# Altium footprint library KF terminal block.PcbLib: 57 footprints (part 2 of 4)
Each footprint in its own frame and in the unit in brackets; x right, y up, seen from the top. Pads: shape width x height; smd on the part's side, far side on the other; paste and mask are expansions set on the pad; w line width, h text height; cw(c..) or ccw(c..) is an arc to the next point about the centre after c.
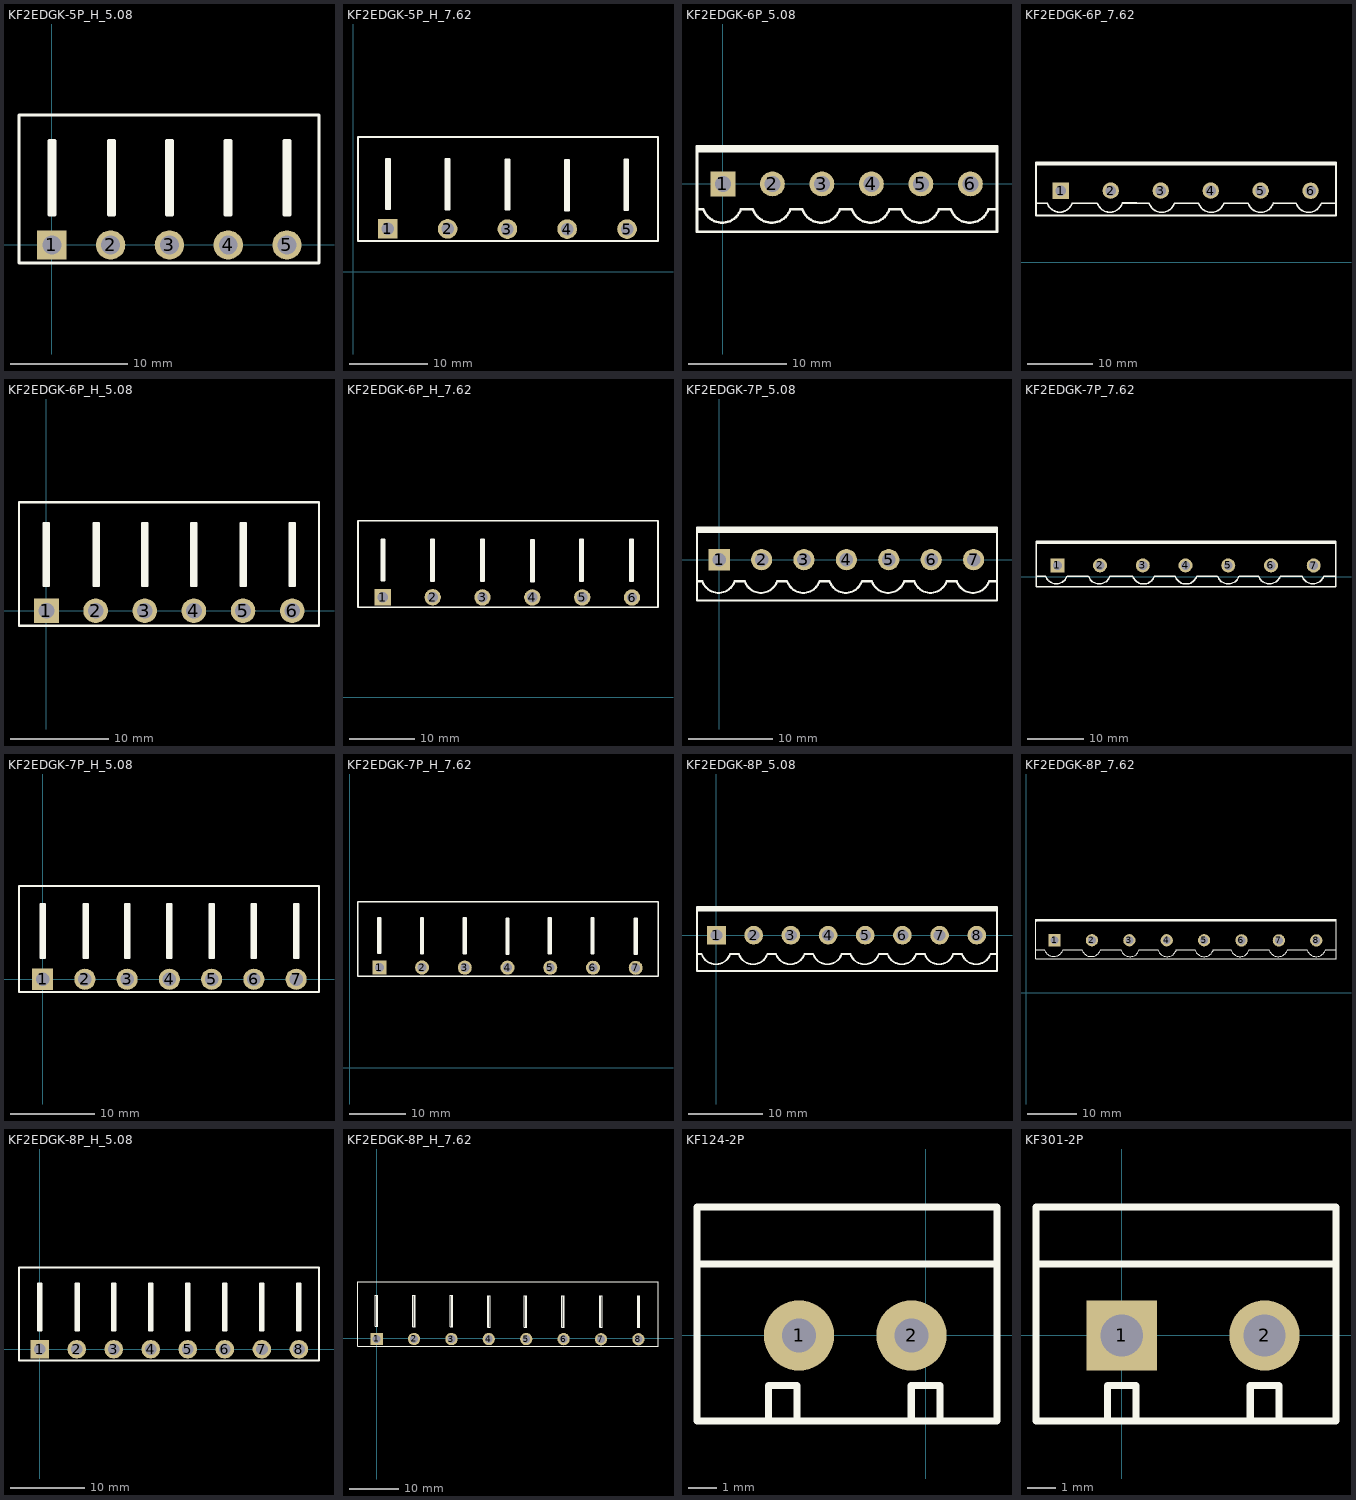
[diagram p1: the footprints below, top view; thin cyan lines are the x and y axes]

## KF2EDGK-5P_H_5.08 [mm] "ï¿½ï¿½Ç²ï¿½ï¿½Ê½ï¿½ï¿½ï¿½ï¿½"
pads (5):
  rect 2.5x2.5 hole 1.6: 1(0,0)
  round 2.5 hole 1.6: 2(5,0) 3(10,0) 4(15,0) 5(20,0)
Top Overlay:
  lines w0.254: 0,2.54 0,8.89 ; 5.08,2.54 5.08,8.89 ; 10,2.54 10,8.89 ; 15,2.54 15,8.89 ; 20,2.54 20,8.89 ; 0,8.89 0.254,8.89 0.254,2.54 -0.254,2.54 -0.254,8.89 0,8.89 ; 5.08,8.89 5.334,8.89 5.334,2.54 4.826,2.54 4.826,8.89 5.08,8.89 ; 10,8.89 9.746,8.89 9.746,2.54 10.254,2.54 10.254,8.89 10,8.89 ; 15,8.89 15.254,8.89 15.254,2.54 14.746,2.54 14.746,8.89 15,8.89 ; 20,8.89 19.746,8.89 19.746,2.54 20.254,2.54 20.254,8.89 20,8.89 ; -2.794,-1.524 22.725,-1.524 22.725,11.049 -2.794,11.049 -2.794,-1.524
3D body "KF2EDGK-1P_H.STEP": height 8.5, standoff -3, extent 17.46,-0.5 22.54,10.8
3D body "KF2EDGK-1P_H.STEP": height 8.5, standoff -3, extent 12.46,-0.5 17.54,10.8
3D body "KF2EDGK-1P_H.STEP": height 8.5, standoff -3, extent 7.46,-0.5 12.54,10.8
3D body "KF2EDGK-1P_H.STEP": height 8.5, standoff -3, extent 2.46,-0.5 7.54,10.8
3D body "KF2EDGK-1P_H.STEP": height 8.5, standoff -3, extent -2.54,-0.5 2.54,10.8

## KF2EDGK-5P_H_7.62 [mm] "ï¿½ï¿½Ç²ï¿½ï¿½Ê½ï¿½ï¿½ï¿½ï¿½"
pads (5):
  rect 2.5x2.5 hole 1.6: 1(4.427,5.461)
  round 2.5 hole 1.6: 2(12.052,5.461) 3(19.677,5.436) 4(27.302,5.436) 5(34.927,5.436)
Top Overlay:
  lines w0.254: 4.427,8.001 4.427,14.351 ; 12.057,8.001 12.057,14.351 ; 19.702,7.979 19.702,14.329 ; 27.302,7.904 27.302,14.254 ; 34.827,7.954 34.827,14.304 ; 4.427,14.351 4.173,14.351 4.173,8.001 4.681,8.001 4.681,14.351 4.427,14.351 ; 11.803,14.351 12.057,14.351 ; 11.803,14.351 12.311,14.351 ; 11.803,14.351 11.803,7.936 12.311,7.936 12.311,14.351 ; 12.057,14.351 12.311,14.351 ; 19.448,14.329 19.702,14.329 ; 19.448,14.329 19.956,14.329 ; 19.448,14.329 19.448,7.914 19.956,7.914 19.956,14.329 ; 19.702,14.329 19.956,14.329 ; 27.048,14.254 27.302,14.254 ; 27.048,14.254 27.556,14.254 ; 27.048,14.254 27.048,7.839 27.556,7.839 27.556,14.254 ; 27.302,14.254 27.556,14.254 ; 34.573,14.304 34.827,14.304 ; 34.573,14.304 35.081,14.304 ; 34.573,14.304 34.573,7.889 35.081,7.889 35.081,14.304 ; 34.827,14.304 35.081,14.304 ; 0.627,3.937 0.627,17.161 38.875,17.161 38.875,3.937 0.627,3.937
3D body "KF2EDGK-1P-H.STEP": height 8.04, standoff -2.91, extent 31.132,4.821 38.752,17.021
3D body "KF2EDGK-1P-H.STEP": height 8.04, standoff -2.91, extent 23.492,4.821 31.112,17.021
3D body "KF2EDGK-1P-H.STEP": height 8.04, standoff -2.91, extent 15.867,4.821 23.487,17.021
3D body "KF2EDGK-1P-H.STEP": height 8.04, standoff -2.91, extent 0.611,4.822 8.231,17.022
3D body "KF2EDGK-1P-H.STEP": height 8.04, standoff -2.91, extent 8.242,4.821 15.862,17.021

## KF2EDGK-6P_5.08 [mm] "Ö±ï¿½Ð²ï¿½ï¿½Ê½ï¿½ï¿½ï¿½ï¿½"
pads (6):
  rect 2.5x2.5 hole 1.6: 1(0,0)
  round 2.5 hole 1.6: 2(5,0) 3(10,0) 4(15,0) 5(20,0) 6(25,0)
Top Overlay:
  lines w0.254: -2.62,-2.54 -1.985,-2.54 ccw(c-0.08,-1.905) 1.825,-2.54 3.015,-2.54 ccw(c4.92,-1.905) 6.825,-2.54 8.015,-2.54 ccw(c9.92,-1.905) 11.825,-2.54 13.015,-2.54 ccw(c14.92,-1.905) 16.825,-2.54 18.015,-2.54 ccw(c19.92,-1.905) 21.825,-2.54 23.015,-2.54 ccw(c24.92,-1.905) 26.825,-2.54 27.667,-2.54 ; -2.62,3.302 27.686,3.302 ; -2.62,3.556 27.686,3.556 ; -2.62,-4.826 -2.62,3.81 27.686,3.81 27.686,-4.826 -2.62,-4.826
3D body "KF2EDGK-1P.STEP": height 11.25, standoff -2.95, extent 22.46,-4.75 27.54,3.75
3D body "KF2EDGK-1P.STEP": height 11.25, standoff -2.95, extent 17.46,-4.75 22.54,3.75
3D body "KF2EDGK-1P.STEP": height 11.25, standoff -2.95, extent 12.46,-4.75 17.54,3.75
3D body "KF2EDGK-1P.STEP": height 11.25, standoff -2.95, extent 7.46,-4.75 12.54,3.75
3D body "KF2EDGK-1P.STEP": height 11.25, standoff -2.95, extent 2.46,-4.75 7.54,3.75
3D body "KF2EDGK-1P.STEP": height 11.25, standoff -2.95, extent -2.54,-4.75 2.54,3.75

## KF2EDGK-6P_7.62 [mm] "Ö±ï¿½Ð²ï¿½ï¿½Ê½ï¿½ï¿½ï¿½ï¿½"
pads (6):
  rect 2.5x2.5 hole 1.6: 1(6.644,10.942)
  round 2.5 hole 1.6: 2(14.264,10.942) 3(21.894,10.942) 4(29.519,10.942) 5(37.144,10.942) 6(44.769,10.927)
Top Overlay:
  lines w0.254: 2.844,15.042 48.625,15.042 ; 2.885,9.028 4.558,9.028 ccw(c6.463,9.663) 8.368,9.028 ; 2.894,14.828 48.6,14.875 ; 8.393,9.028 12.194,9.017 ; 12.219,9.017 ccw(c14.124,9.652) 16.029,9.017 ; 16.044,9.042 18.244,9.042 ; 16.598,9.037 20.119,9.037 ; 20.144,8.992 ccw(c22.049,9.627) 23.954,8.992 ; 23.968,9.028 27.669,9.017 ; 27.694,8.992 ccw(c29.599,9.627) 31.504,8.992 ; 31.515,9.027 33.319,9.022 ; 31.522,9.037 35.224,9.026 ; 35.249,9.001 ccw(c37.154,9.636) 39.059,9.001 ; 39.069,9.036 40.874,9.031 ; 39.069,9.042 42.549,9.026 ; 42.574,9.001 ccw(c44.479,9.636) 46.384,9.001 ; 46.394,9.036 48.625,9.029 ; 2.844,7.142 2.844,15.235 48.65,15.235 48.65,7.142 2.844,7.142
3D body "KF2EDGK-1P.STEP": height 12.3, standoff -2.8, extent 41.019,7.242 48.639,15.192
3D body "KF2EDGK-1P.STEP": height 12.3, standoff -2.8, extent 33.394,7.242 41.014,15.192
3D body "KF2EDGK-1P.STEP": height 12.3, standoff -2.8, extent 10.505,7.221 18.125,15.171
3D body "KF2EDGK-1P.STEP": height 12.3, standoff -2.8, extent 2.885,7.234 10.505,15.184
3D body "KF2EDGK-1P.STEP": height 12.3, standoff -2.8, extent 18.119,7.221 25.739,15.171
3D body "KF2EDGK-1P.STEP": height 12.3, standoff -2.8, extent 25.769,7.242 33.389,15.192

## KF2EDGK-6P_H_5.08 [mm] "ï¿½ï¿½Ç²ï¿½ï¿½Ê½ï¿½ï¿½ï¿½ï¿½"
pads (6):
  rect 2.5x2.5 hole 1.6: 1(0,0)
  round 2.5 hole 1.6: 2(5,0) 3(10,0) 4(15,0) 5(20,0) 6(25,0)
Top Overlay:
  lines w0.254: 0,2.54 0,8.89 ; 5.08,2.54 5.08,8.89 ; 10,2.54 10,8.89 ; 15,2.54 15,8.89 ; 20,2.54 20,8.89 ; 25,2.54 25,8.89 ; 0,8.89 -0.254,8.89 -0.254,2.54 0.254,2.54 0.254,8.89 0,8.89 ; 5.08,8.89 4.826,8.89 4.826,2.54 5.334,2.54 5.334,8.89 5.08,8.89 ; 10,8.89 10.254,8.89 10.254,2.54 9.746,2.54 9.746,8.89 10,8.89 ; 15,8.89 14.746,8.89 14.746,2.54 15.254,2.54 15.254,8.89 15,8.89 ; 20,8.89 20.254,8.89 20.254,2.54 19.746,2.54 19.746,8.89 20,8.89 ; 25,8.89 24.746,8.89 24.746,2.54 25.254,2.54 25.254,8.89 25,8.89 ; -2.794,-1.524 -2.794,11.049 27.725,11.049 27.725,-1.524 -2.794,-1.524
3D body "KF2EDGK-1P_H.STEP": height 8.5, standoff -3, extent -2.54,-0.5 2.54,10.8
3D body "KF2EDGK-1P_H.STEP": height 8.5, standoff -3, extent 2.46,-0.5 7.54,10.8
3D body "KF2EDGK-1P_H.STEP": height 8.5, standoff -3, extent 7.46,-0.5 12.54,10.8
3D body "KF2EDGK-1P_H.STEP": height 8.5, standoff -3, extent 12.46,-0.5 17.54,10.8
3D body "KF2EDGK-1P_H.STEP": height 8.5, standoff -3, extent 17.46,-0.5 22.54,10.8
3D body "KF2EDGK-1P_H.STEP": height 8.5, standoff -3, extent 22.46,-0.5 27.54,10.8

## KF2EDGK-6P_H_7.62 [mm] "ï¿½ï¿½Ç²ï¿½ï¿½Ê½ï¿½ï¿½ï¿½ï¿½"
pads (6):
  rect 2.5x2.5 hole 1.6: 1(8.675,15.3)
  round 2.5 hole 1.6: 2(16.3,15.3) 3(23.925,15.275) 4(31.55,15.275) 5(39.175,15.275) 6(46.8,15.261)
Top Overlay:
  lines w0.254: 8.675,17.84 8.675,24.19 ; 16.305,17.84 16.305,24.19 ; 23.949,17.818 23.949,24.168 ; 31.549,17.743 31.549,24.093 ; 39.074,17.793 39.074,24.143 ; 46.724,17.793 46.724,24.143 ; 8.675,24.19 8.929,24.19 8.929,17.84 8.421,17.84 8.421,24.19 8.675,24.19 ; 16.051,24.19 16.051,17.775 16.559,17.775 16.559,24.19 ; 16.051,24.19 16.559,24.19 ; 16.051,24.19 16.305,24.19 ; 16.305,24.19 16.559,24.19 ; 23.695,24.168 23.695,17.753 24.203,17.753 24.203,24.168 ; 23.695,24.168 24.203,24.168 ; 23.695,24.168 23.949,24.168 ; 23.949,24.168 24.203,24.168 ; 31.295,24.093 31.295,17.678 31.803,17.678 31.803,24.093 ; 31.295,24.093 31.803,24.093 ; 31.295,24.093 31.549,24.093 ; 31.549,24.093 31.803,24.093 ; 38.82,24.143 38.82,17.728 39.328,17.728 39.328,24.143 ; 38.82,24.143 39.328,24.143 ; 38.82,24.143 39.074,24.143 ; 39.074,24.143 39.328,24.143 ; 46.47,24.143 46.47,17.728 46.978,17.728 46.978,24.143 ; 46.47,24.143 46.978,24.143 ; 46.47,24.143 46.724,24.143 ; 46.724,24.143 46.978,24.143 ; 4.875,13.776 50.775,13.776 50.775,27 4.875,27 4.875,13.776
3D body "KF2EDGK-1P-H.STEP": height 8.04, standoff -2.91, extent 43.05,14.7 50.67,26.9
3D body "KF2EDGK-1P-H.STEP": height 8.04, standoff -2.91, extent 35.432,14.696 43.052,26.896
3D body "KF2EDGK-1P-H.STEP": height 8.04, standoff -2.91, extent 27.792,14.696 35.412,26.896
3D body "KF2EDGK-1P-H.STEP": height 8.04, standoff -2.91, extent 20.167,14.696 27.787,26.896
3D body "KF2EDGK-1P-H.STEP": height 8.04, standoff -2.91, extent 4.911,14.697 12.531,26.897
3D body "KF2EDGK-1P-H.STEP": height 8.04, standoff -2.91, extent 12.542,14.696 20.162,26.896

## KF2EDGK-7P_5.08 [mm] "Ö±ï¿½Ð²ï¿½ï¿½Ê½ï¿½ï¿½ï¿½ï¿½"
pads (7):
  rect 2.5x2.5 hole 1.6: 1(0,0)
  round 2.5 hole 1.6: 2(5,0) 3(10,0) 4(15,0) 5(20,0) 6(25,0) 7(30,0)
Top Overlay:
  lines w0.254: -2.62,-2.54 -1.985,-2.54 ccw(c-0.08,-1.905) 1.825,-2.54 3.015,-2.54 ccw(c4.92,-1.905) 6.825,-2.54 8.015,-2.54 ccw(c9.92,-1.905) 11.825,-2.54 13.015,-2.54 ccw(c14.92,-1.905) 16.825,-2.54 18.015,-2.54 ccw(c19.92,-1.905) 21.825,-2.54 23.015,-2.54 ccw(c24.92,-1.905) 26.825,-2.54 28.015,-2.54 ccw(c29.92,-1.905) 31.825,-2.54 32.667,-2.54 ; -2.62,3.302 32.766,3.302 ; -2.62,3.556 32.766,3.556 ; -2.62,-4.826 -2.62,3.81 32.766,3.81 32.766,-4.826 -2.62,-4.826
3D body "KF2EDGK-1P.STEP": height 11.25, standoff -2.95, extent -2.54,-4.75 2.54,3.75
3D body "KF2EDGK-1P.STEP": height 11.25, standoff -2.95, extent 7.46,-4.75 12.54,3.75
3D body "KF2EDGK-1P.STEP": height 11.25, standoff -2.95, extent 2.46,-4.75 7.54,3.75
3D body "KF2EDGK-1P.STEP": height 11.25, standoff -2.95, extent 12.46,-4.75 17.54,3.75
3D body "KF2EDGK-1P.STEP": height 11.25, standoff -2.95, extent 17.46,-4.75 22.54,3.75
3D body "KF2EDGK-1P.STEP": height 11.25, standoff -2.95, extent 22.46,-4.75 27.54,3.75
3D body "KF2EDGK-1P.STEP": height 11.25, standoff -2.95, extent 27.46,-4.75 32.54,3.75

## KF2EDGK-7P_7.62 [mm] "Ö±ï¿½Ð²ï¿½ï¿½Ê½ï¿½ï¿½ï¿½ï¿½"
pads (7):
  rect 2.5x2.5 hole 1.6: 1(20.475,2.025)
  round 2.5 hole 1.6: 2(28.095,2.025) 3(35.725,2.025) 4(43.35,2.025) 5(50.975,2.025) 6(58.6,2.011) 7(66.225,2)
Top Overlay:
  lines w0.254: 16.675,6.125 70.2,6.125 ; 16.716,0.111 18.388,0.111 ccw(c20.293,0.746) 22.198,0.111 ; 16.725,5.911 70.05,5.967 ; 22.224,0.111 26.025,0.1 ; 26.05,0.1 ccw(c27.955,0.735) 29.86,0.1 ; 29.875,0.125 32.075,0.125 ; 30.428,0.12 33.95,0.12 ; 33.975,0.075 ccw(c35.88,0.71) 37.785,0.075 ; 37.799,0.111 41.5,0.1 ; 41.525,0.075 ccw(c43.43,0.71) 45.335,0.075 ; 45.345,0.11 47.15,0.105 ; 45.353,0.12 49.054,0.11 ; 49.079,0.084 ccw(c50.984,0.719) 52.889,0.084 ; 52.899,0.119 54.704,0.114 ; 52.9,0.125 56.379,0.109 ; 56.404,0.084 ccw(c58.309,0.719) 60.214,0.084 ; 60.224,0.119 62.029,0.114 ; 60.453,0.12 64.154,0.109 ; 64.179,0.084 ccw(c66.084,0.719) 67.989,0.084 ; 67.999,0.119 70.075,0.113 ; 70.175,6.318 16.675,6.318 16.675,-1.775 70.2,-1.775 ; 70.2,-1.75 70.2,6.3
3D body "KF2EDGK-1P.STEP": height 12.3, standoff -2.8, extent 39.6,-1.675 47.22,6.275
3D body "KF2EDGK-1P.STEP": height 12.3, standoff -2.8, extent 31.95,-1.696 39.57,6.254
3D body "KF2EDGK-1P.STEP": height 12.3, standoff -2.8, extent 16.716,-1.683 24.336,6.267
3D body "KF2EDGK-1P.STEP": height 12.3, standoff -2.8, extent 24.336,-1.696 31.956,6.254
3D body "KF2EDGK-1P.STEP": height 12.3, standoff -2.8, extent 47.225,-1.675 54.845,6.275
3D body "KF2EDGK-1P.STEP": height 12.3, standoff -2.8, extent 54.85,-1.675 62.47,6.275
3D body "KF2EDGK-1P.STEP": height 12.3, standoff -2.8, extent 62.5,-1.7 70.12,6.25

## KF2EDGK-7P_H_5.08 [mm] "ï¿½ï¿½Ç²ï¿½ï¿½Ê½ï¿½ï¿½ï¿½ï¿½"
pads (7):
  rect 2.5x2.5 hole 1.6: 1(0,0)
  round 2.5 hole 1.6: 2(5,0) 3(10,0) 4(15,0) 5(20,0) 6(25,0) 7(30,0)
Top Overlay:
  lines w0.254: 0,2.54 0,8.89 ; 5.08,2.54 5.08,8.89 ; 10,2.54 10,8.89 ; 15,2.54 15,8.89 ; 20,2.54 20,8.89 ; 25,2.54 25,8.89 ; 30,2.54 30,8.89 ; 0,8.89 0.254,8.89 0.254,2.54 -0.254,2.54 -0.254,8.89 0,8.89 ; 5.08,8.89 5.334,8.89 5.334,2.54 4.826,2.54 4.826,8.89 5.08,8.89 ; 10,8.89 9.746,8.89 9.746,2.54 10.254,2.54 10.254,8.89 10,8.89 ; 15,8.89 15.254,8.89 15.254,2.54 14.746,2.54 14.746,8.89 15,8.89 ; 20,8.89 19.746,8.89 19.746,2.54 20.254,2.54 20.254,8.89 20,8.89 ; 25,8.89 25.254,8.89 25.254,2.54 24.746,2.54 24.746,8.89 25,8.89 ; 30,8.89 29.746,8.89 29.746,2.54 30.254,2.54 30.254,8.89 30,8.89 ; -2.794,-1.524 32.7,-1.524 32.7,11.049 -2.794,11.049 -2.794,-1.524
3D body "KF2EDGK-1P_H.STEP": height 8.5, standoff -3, extent 27.46,-0.5 32.54,10.8
3D body "KF2EDGK-1P_H.STEP": height 8.5, standoff -3, extent 22.46,-0.5 27.54,10.8
3D body "KF2EDGK-1P_H.STEP": height 8.5, standoff -3, extent 17.46,-0.5 22.54,10.8
3D body "KF2EDGK-1P_H.STEP": height 8.5, standoff -3, extent 12.46,-0.5 17.54,10.8
3D body "KF2EDGK-1P_H.STEP": height 8.5, standoff -3, extent 7.46,-0.5 12.54,10.8
3D body "KF2EDGK-1P_H.STEP": height 8.5, standoff -3, extent 2.46,-0.5 7.54,10.8
3D body "KF2EDGK-1P_H.STEP": height 8.5, standoff -3, extent -2.54,-0.5 2.54,10.8

## KF2EDGK-7P_H_7.62 [mm] "ï¿½ï¿½Ç²ï¿½ï¿½Ê½ï¿½ï¿½ï¿½ï¿½"
pads (7):
  rect 2.5x2.5 hole 1.6: 1(5.275,17.875)
  round 2.5 hole 1.6: 2(12.9,17.875) 3(20.525,17.85) 4(28.15,17.85) 5(35.775,17.85) 6(43.4,17.836) 7(51.025,17.825)
Top Overlay:
  lines w0.254: 5.275,20.415 5.275,26.765 ; 12.905,20.415 12.905,26.765 ; 20.549,20.393 20.549,26.743 ; 28.149,20.318 28.149,26.668 ; 35.674,20.368 35.674,26.718 ; 43.324,20.368 43.324,26.718 ; 51.024,20.318 51.024,26.668 ; 5.275,26.765 5.021,26.765 5.021,20.415 5.529,20.415 5.529,26.765 5.275,26.765 ; 12.651,26.765 12.905,26.765 ; 12.651,26.765 13.159,26.765 ; 12.651,26.765 12.651,20.35 13.159,20.35 13.159,26.765 ; 12.905,26.765 13.159,26.765 ; 20.295,26.743 20.549,26.743 ; 20.295,26.743 20.803,26.743 ; 20.295,26.743 20.295,20.328 20.803,20.328 20.803,26.743 ; 20.549,26.743 20.803,26.743 ; 27.895,26.668 28.149,26.668 ; 27.895,26.668 28.403,26.668 ; 27.895,26.668 27.895,20.253 28.403,20.253 28.403,26.668 ; 28.149,26.668 28.403,26.668 ; 35.42,26.718 35.674,26.718 ; 35.42,26.718 35.928,26.718 ; 35.42,26.718 35.42,20.303 35.928,20.303 35.928,26.718 ; 35.674,26.718 35.928,26.718 ; 43.07,26.718 43.324,26.718 ; 43.07,26.718 43.578,26.718 ; 43.07,26.718 43.07,20.303 43.578,20.303 43.578,26.718 ; 43.324,26.718 43.578,26.718 ; 50.77,26.668 51.024,26.668 ; 50.77,26.668 51.278,26.668 ; 50.77,26.668 50.77,20.253 51.278,20.253 51.278,26.668 ; 51.024,26.668 51.278,26.668 ; 1.475,16.351 1.475,29.575 55,29.575 55,16.351 1.475,16.351
3D body "KF2EDGK-1P-H.STEP": height 8.04, standoff -2.91, extent 39.755,17.275 47.375,29.475
3D body "KF2EDGK-1P-H.STEP": height 8.04, standoff -2.91, extent 47.375,17.275 54.995,29.475
3D body "KF2EDGK-1P-H.STEP": height 8.04, standoff -2.91, extent 32.13,17.275 39.75,29.475
3D body "KF2EDGK-1P-H.STEP": height 8.04, standoff -2.91, extent 24.505,17.275 32.125,29.475
3D body "KF2EDGK-1P-H.STEP": height 8.04, standoff -2.91, extent 16.865,17.275 24.485,29.475
3D body "KF2EDGK-1P-H.STEP": height 8.04, standoff -2.91, extent 9.23,17.275 16.85,29.475
3D body "KF2EDGK-1P-H.STEP": height 8.04, standoff -2.91, extent 1.605,17.275 9.225,29.475

## KF2EDGK-8P_5.08 [mm] "Ö±ï¿½Ð²ï¿½ï¿½Ê½ï¿½ï¿½ï¿½ï¿½"
pads (8):
  rect 2.5x2.5 hole 1.6: 1(0,0)
  round 2.5 hole 1.6: 2(5,0) 3(10,0) 4(15,0) 5(20,0) 6(25,0) 7(30,0) 8(35,0)
Top Overlay:
  lines w0.254: -2.62,-2.54 -1.985,-2.54 ccw(c-0.08,-1.905) 1.825,-2.54 3.015,-2.54 ccw(c4.92,-1.905) 6.825,-2.54 8.015,-2.54 ccw(c9.92,-1.905) 11.825,-2.54 13.015,-2.54 ccw(c14.92,-1.905) 16.825,-2.54 18.015,-2.54 ccw(c19.92,-1.905) 21.825,-2.54 23.015,-2.54 ccw(c24.92,-1.905) 26.825,-2.54 28.015,-2.54 ccw(c29.92,-1.905) 31.825,-2.54 33.015,-2.54 ccw(c34.92,-1.905) 36.825,-2.54 37.667,-2.54 ; -2.62,3.302 37.592,3.302 ; -2.62,3.556 37.719,3.556 ; -2.62,-4.826 -2.62,3.81 37.719,3.81 37.719,-4.826 -2.62,-4.826
3D body "KF2EDGK-1P.STEP": height 11.25, standoff -2.95, extent -2.54,-4.75 2.54,3.75
3D body "KF2EDGK-1P.STEP": height 11.25, standoff -2.95, extent 2.46,-4.75 7.54,3.75
3D body "KF2EDGK-1P.STEP": height 11.25, standoff -2.95, extent 7.46,-4.75 12.54,3.75
3D body "KF2EDGK-1P.STEP": height 11.25, standoff -2.95, extent 12.46,-4.75 17.54,3.75
3D body "KF2EDGK-1P.STEP": height 11.25, standoff -2.95, extent 17.46,-4.75 22.54,3.75
3D body "KF2EDGK-1P.STEP": height 11.25, standoff -2.95, extent 22.46,-4.75 27.54,3.75
3D body "KF2EDGK-1P.STEP": height 11.25, standoff -2.95, extent 27.46,-4.75 32.54,3.75
3D body "KF2EDGK-1P.STEP": height 11.25, standoff -2.95, extent 32.46,-4.75 37.54,3.75

## KF2EDGK-8P_7.62 [mm] "Ö±ï¿½Ð²ï¿½ï¿½Ê½ï¿½ï¿½ï¿½ï¿½"
pads (8):
  rect 2.5x2.5 hole 1.6: 1(5.775,10.7)
  round 2.5 hole 1.6: 2(13.395,10.7) 3(21.025,10.7) 4(28.65,10.7) 5(36.275,10.7) 6(43.9,10.686) 7(51.525,10.675) 8(59.15,10.675)
Top Overlay:
  lines w0.254: 2.016,8.786 3.688,8.786 ccw(c5.593,9.421) 7.498,8.786 ; 2.025,14.586 63.15,14.65 ; 2.025,14.814 63.15,14.814 ; 7.524,8.786 11.325,8.775 ; 11.35,8.775 ccw(c13.255,9.41) 15.16,8.775 ; 15.175,8.8 17.375,8.8 ; 15.728,8.795 19.25,8.795 ; 19.275,8.75 ccw(c21.18,9.385) 23.085,8.75 ; 23.099,8.786 26.8,8.775 ; 26.825,8.75 ccw(c28.73,9.385) 30.635,8.75 ; 30.645,8.785 32.45,8.78 ; 30.653,8.795 34.354,8.785 ; 34.379,8.759 ccw(c36.284,9.394) 38.189,8.759 ; 38.199,8.794 40.004,8.789 ; 38.2,8.8 41.679,8.784 ; 41.704,8.759 ccw(c43.609,9.394) 45.514,8.759 ; 45.524,8.794 47.329,8.789 ; 45.753,8.795 49.454,8.784 ; 49.479,8.759 ccw(c51.384,9.394) 53.289,8.759 ; 53.299,8.794 55.104,8.789 ; 53.528,8.795 57.229,8.784 ; 57.254,8.759 ccw(c59.159,9.394) 61.064,8.759 ; 61.075,8.794 63.15,8.8 ; 1.99,6.9 63.175,6.9 63.175,15.018 1.99,15.018 1.99,6.9
3D body "KF2EDGK-1P.STEP": height 12.3, standoff -2.8, extent 24.9,7 32.52,14.95
3D body "KF2EDGK-1P.STEP": height 12.3, standoff -2.8, extent 17.25,6.979 24.87,14.929
3D body "KF2EDGK-1P.STEP": height 12.3, standoff -2.8, extent 2.016,6.992 9.636,14.942
3D body "KF2EDGK-1P.STEP": height 12.3, standoff -2.8, extent 9.636,6.979 17.256,14.929
3D body "KF2EDGK-1P.STEP": height 12.3, standoff -2.8, extent 32.525,7 40.145,14.95
3D body "KF2EDGK-1P.STEP": height 12.3, standoff -2.8, extent 40.15,7 47.77,14.95
3D body "KF2EDGK-1P.STEP": height 12.3, standoff -2.8, extent 47.8,6.975 55.42,14.925
3D body "KF2EDGK-1P.STEP": height 12.3, standoff -2.8, extent 55.45,7 63.07,14.95

## KF2EDGK-8P_H_5.08 [mm] "ï¿½ï¿½Ç²ï¿½ï¿½Ê½ï¿½ï¿½ï¿½ï¿½"
pads (8):
  rect 2.5x2.5 hole 1.6: 1(0,0)
  round 2.5 hole 1.6: 2(5,0) 3(10,0) 4(15,0) 5(20,0) 6(25,0) 7(30,0) 8(35,0)
Top Overlay:
  lines w0.254: 0,2.54 0,8.89 ; 5.08,2.54 5.08,8.89 ; 10,2.54 10,8.89 ; 15,2.54 15,8.89 ; 20,2.54 20,8.89 ; 25,2.54 25,8.89 ; 30,2.54 30,8.89 ; 35,2.54 35,8.89 ; 0,8.89 -0.254,8.89 -0.254,2.54 0.254,2.54 0.254,8.89 0,8.89 ; 5.08,8.89 4.826,8.89 4.826,2.54 5.334,2.54 5.334,8.89 5.08,8.89 ; 10,8.89 10.254,8.89 10.254,2.54 9.746,2.54 9.746,8.89 10,8.89 ; 15,8.89 14.746,8.89 14.746,2.54 15.254,2.54 15.254,8.89 15,8.89 ; 20,8.89 20.254,8.89 20.254,2.54 19.746,2.54 19.746,8.89 20,8.89 ; 25,8.89 24.746,8.89 24.746,2.54 25.254,2.54 25.254,8.89 25,8.89 ; 30,8.89 30.254,8.89 30.254,2.54 29.746,2.54 29.746,8.89 30,8.89 ; 35,8.89 34.746,8.89 34.746,2.54 35.254,2.54 35.254,8.89 35,8.89 ; -2.794,-1.524 -2.794,11.049 37.719,11.049 37.719,-1.524 -2.794,-1.524
3D body "KF2EDGK-1P_H.STEP": height 8.5, standoff -3, extent -2.54,-0.5 2.54,10.8
3D body "KF2EDGK-1P_H.STEP": height 8.5, standoff -3, extent 2.46,-0.5 7.54,10.8
3D body "KF2EDGK-1P_H.STEP": height 8.5, standoff -3, extent 7.46,-0.5 12.54,10.8
3D body "KF2EDGK-1P_H.STEP": height 8.5, standoff -3, extent 12.46,-0.5 17.54,10.8
3D body "KF2EDGK-1P_H.STEP": height 8.5, standoff -3, extent 17.46,-0.5 22.54,10.8
3D body "KF2EDGK-1P_H.STEP": height 8.5, standoff -3, extent 22.46,-0.5 27.54,10.8
3D body "KF2EDGK-1P_H.STEP": height 8.5, standoff -3, extent 27.46,-0.5 32.54,10.8
3D body "KF2EDGK-1P_H.STEP": height 8.5, standoff -3, extent 32.46,-0.5 37.54,10.8

## KF2EDGK-8P_H_7.62 [mm] "ï¿½ï¿½Ç²ï¿½ï¿½Ê½ï¿½ï¿½ï¿½ï¿½"
pads (8):
  rect 2.5x2.5 hole 1.6: 1(-0.05,-0.1)
  round 2.5 hole 1.6: 2(7.575,-0.1) 3(15.2,-0.125) 4(22.825,-0.125) 5(30.45,-0.125) 6(38.075,-0.139) 7(45.7,-0.15) 8(53.325,-0.15)
Top Overlay:
  lines w0.254: -0.05,2.44 -0.05,8.79 ; 7.58,2.44 7.58,8.79 ; 15.224,2.418 15.224,8.768 ; 22.824,2.343 22.824,8.693 ; 30.349,2.393 30.349,8.743 ; 37.999,2.393 37.999,8.743 ; 45.699,2.343 45.699,8.693 ; 53.143,2.296 53.651,2.296 ; 53.145,2.328 53.145,8.743 ; 53.399,2.393 53.399,8.743 ; 53.653,2.328 53.653,8.743 ; -0.05,8.79 -0.304,8.79 -0.304,2.44 0.204,2.44 0.204,8.79 -0.05,8.79 ; 7.326,8.79 7.58,8.79 ; 7.326,8.79 7.834,8.79 ; 7.326,8.79 7.326,2.375 7.834,2.375 7.834,8.79 ; 7.58,8.79 7.834,8.79 ; 14.97,8.768 15.224,8.768 ; 14.97,8.768 15.478,8.768 ; 14.97,8.768 14.97,2.353 15.478,2.353 15.478,8.768 ; 15.224,8.768 15.478,8.768 ; 22.57,8.693 22.824,8.693 ; 22.57,8.693 23.078,8.693 ; 22.57,8.693 22.57,2.278 23.078,2.278 23.078,8.693 ; 22.824,8.693 23.078,8.693 ; 30.095,8.743 30.349,8.743 ; 30.095,8.743 30.603,8.743 ; 30.095,8.743 30.095,2.328 30.603,2.328 30.603,8.743 ; 30.349,8.743 30.603,8.743 ; 37.745,8.743 37.999,8.743 ; 37.745,8.743 38.253,8.743 ; 37.745,8.743 37.745,2.328 38.253,2.328 38.253,8.743 ; 37.999,8.743 38.253,8.743 ; 45.445,8.693 45.699,8.693 ; 45.445,8.693 45.953,8.693 ; 45.445,8.693 45.445,2.278 45.953,2.278 45.953,8.693 ; 45.699,8.693 45.953,8.693 ; 53.145,8.743 53.653,8.743 ; 53.145,8.743 53.653,8.743 ; 53.145,8.743 53.399,8.743 ; 53.399,8.743 53.653,8.743 ; -3.85,-1.624 -3.85,11.6 57.325,11.6 57.325,-1.624 -3.85,-1.624
3D body "KF2EDGK-1P-H.STEP": height 8.04, standoff -2.91, extent 3.872,-0.65 11.492,11.55
3D body "KF2EDGK-1P-H.STEP": height 8.04, standoff -2.91, extent -3.76,-0.65 3.86,11.55
3D body "KF2EDGK-1P-H.STEP": height 8.04, standoff -2.91, extent 11.497,-0.65 19.117,11.55
3D body "KF2EDGK-1P-H.STEP": height 8.04, standoff -2.91, extent 19.122,-0.65 26.742,11.55
3D body "KF2EDGK-1P-H.STEP": height 8.04, standoff -2.91, extent 26.762,-0.65 34.382,11.55
3D body "KF2EDGK-1P-H.STEP": height 8.04, standoff -2.91, extent 34.397,-0.65 42.017,11.55
3D body "KF2EDGK-1P-H.STEP": height 8.04, standoff -2.91, extent 49.647,-0.65 57.267,11.55
3D body "KF2EDGK-1P-H.STEP": height 8.04, standoff -2.91, extent 42.022,-0.65 49.642,11.55

## KF124-2P [mm] "ï¿½ï¿½É«Ö±ï¿½ï¿½"
pads (2):
  round 2.5 hole 1.2: 1(-4.5,0) 2(-0.5,0)
Top Overlay:
  lines w0.254: -8.128,2.54 2.54,2.54 ; -5.588,-3.048 -5.588,-1.778 -4.572,-1.778 -4.572,-3.048 ; -0.508,-3.048 -0.508,-1.778 0.508,-1.778 0.508,-3.048 ; -8.128,-3.048 2.54,-3.048 2.54,4.572 -8.128,4.572 -8.128,-3.048
3D body "KF301.STEP": height 10.05, standoff -3.75, extent -2.95,-3 2.55,4.6
3D body "KF301.STEP": height 10.05, standoff -3.75, extent -7.95,-3 -2.45,4.6

## KF301-2P [mm] "ï¿½ï¿½Æ´ï¿½Ó¶ï¿½ï¿½ï¿½/6A"
pads (2):
  rect 2.5x2.5 hole 1.5: 1(0,0)
  round 2.5 hole 1.5: 2(5.08,0)
Top Overlay:
  lines w0.254: -3.048,2.54 7.62,2.54 ; -0.508,-3.048 -0.508,-1.778 0.508,-1.778 0.508,-3.048 ; 4.572,-3.048 4.572,-1.778 5.588,-1.778 5.588,-3.048 ; -3.048,-3.048 7.62,-3.048 7.62,4.572 -3.048,4.572 -3.048,-3.048
3D body "KF301.STEP": height 10.05, standoff -3.75, extent 2.13,-3 7.63,4.6
3D body "KF301.STEP": height 10.05, standoff -3.75, extent -2.87,-3 2.63,4.6